# EAGLE library part ENCODER (library panasonic)
Drehencoder mit Taster von Pollin
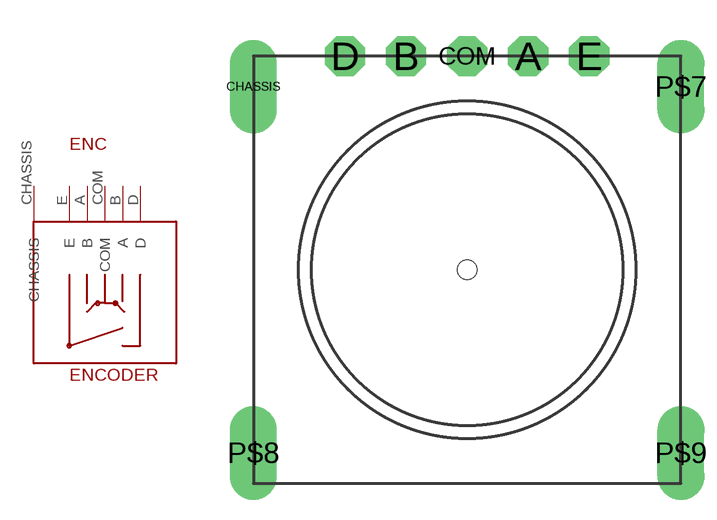
[diagram p0: symbol with the pads of ENCODER; footprint ENCODER]

Designator prefix ENC

## ENCODER  [ENCODER]
A  B  pas
B  A  pas
CHASSIS  CHASSIS  pas
COM  COM  pas
D  D  pas
E  E  pas

## Footprint ENCODER (pad centres in mm)
Pollin Panasonic Drehencoder
drill 0.8 pad 1.676 octagon: A 2.54,8.89; B -2.54,8.89; COM 0,8.89; D -5.08,8.89; E 5.08,8.89
drill 1.3 long: CHASSIS -8.89,7.62; P$7 8.89,7.62; P$8 -8.89,-7.62; P$9 8.89,-7.62
hole 0.8 at 0,0